# Altium schematic symbol library pga_socket_square_208pin_17x17_minus_9x9.SchLib: 2 symbols
Pins are listed as number, name and electrical type; pins without a type are passive.

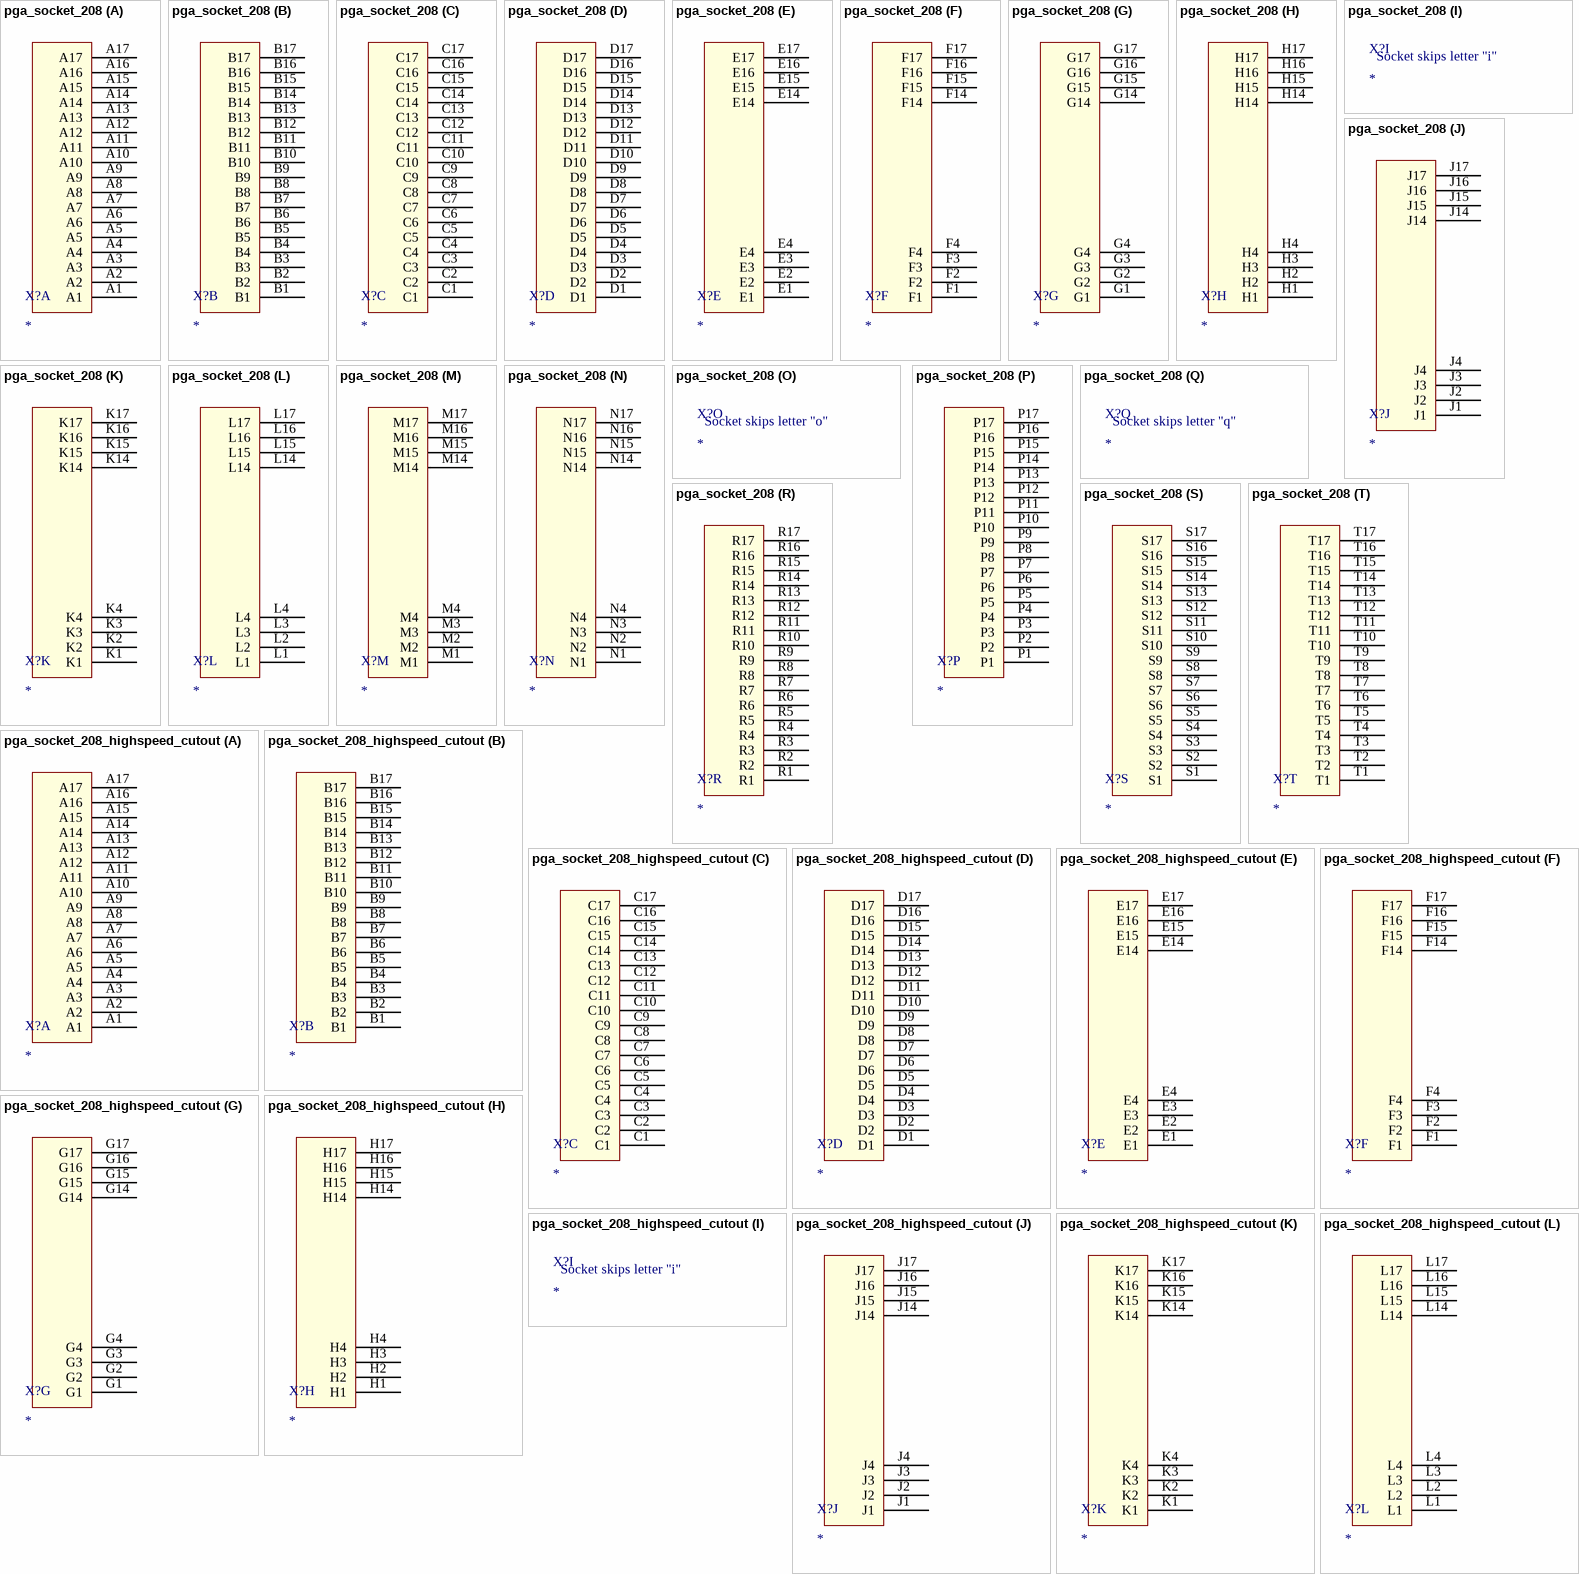
[diagram p0: symbols pga_socket_208 to pga_socket_208_highspeed_cutout]

## pga_socket_208
designator X?
footprint pga_socket_208pin_17x17_minus_9x9
part A pins: A1, A2, A3, A4, A5, A6, A7, A8, A9, A10, A11, A12, A13, A14, A15, A16, A17
part B pins: B1, B2, B3, B4, B5, B6, B7, B8, B9, B10, B11, B12, B13, B14, B15, B16, B17
part C pins: C1, C2, C3, C4, C5, C6, C7, C8, C9, C10, C11, C12, C13, C14, C15, C16, C17
part D pins: D1, D2, D3, D4, D5, D6, D7, D8, D9, D10, D11, D12, D13, D14, D15, D16, D17
part E pins: E1, E2, E3, E4, E14, E15, E16, E17
part F pins: F1, F2, F3, F4, F14, F15, F16, F17
part G pins: G1, G2, G3, G4, G14, G15, G16, G17
part H pins: H1, H2, H3, H4, H14, H15, H16, H17
part J pins: J1, J2, J3, J4, J14, J15, J16, J17
part K pins: K1, K2, K3, K4, K14, K15, K16, K17
part L pins: L1, L2, L3, L4, L14, L15, L16, L17
part M pins: M1, M2, M3, M4, M14, M15, M16, M17
part N pins: N1, N2, N3, N4, N14, N15, N16, N17
part P pins: P1, P2, P3, P4, P5, P6, P7, P8, P9, P10, P11, P12, P13, P14, P15, P16, P17
part R pins: R1, R2, R3, R4, R5, R6, R7, R8, R9, R10, R11, R12, R13, R14, R15, R16, R17
part S pins: S1, S2, S3, S4, S5, S6, S7, S8, S9, S10, S11, S12, S13, S14, S15, S16, S17
part T pins: T1, T2, T3, T4, T5, T6, T7, T8, T9, T10, T11, T12, T13, T14, T15, T16, T17
part I text: Socket skips letter "i"
part O text: Socket skips letter "o"
part Q text: Socket skips letter "q"

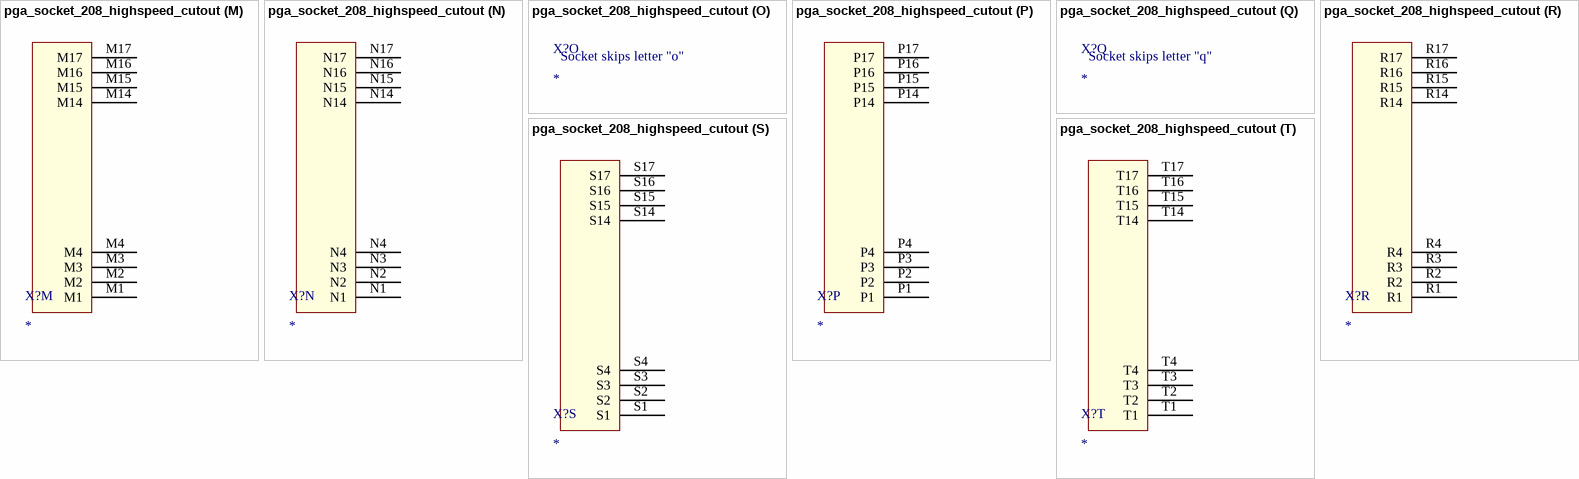
[diagram p1: symbol pga_socket_208_highspeed_cutout]

## pga_socket_208_highspeed_cutout
designator X?
footprint pga_socket_208pin_highspeed_cutout
part A pins: A1, A2, A3, A4, A5, A6, A7, A8, A9, A10, A11, A12, A13, A14, A15, A16, A17
part B pins: B1, B2, B3, B4, B5, B6, B7, B8, B9, B10, B11, B12, B13, B14, B15, B16, B17
part C pins: C1, C2, C3, C4, C5, C6, C7, C8, C9, C10, C11, C12, C13, C14, C15, C16, C17
part D pins: D1, D2, D3, D4, D5, D6, D7, D8, D9, D10, D11, D12, D13, D14, D15, D16, D17
part E pins: E1, E2, E3, E4, E14, E15, E16, E17
part F pins: F1, F2, F3, F4, F14, F15, F16, F17
part G pins: G1, G2, G3, G4, G14, G15, G16, G17
part H pins: H1, H2, H3, H4, H14, H15, H16, H17
part J pins: J1, J2, J3, J4, J14, J15, J16, J17
part K pins: K1, K2, K3, K4, K14, K15, K16, K17
part L pins: L1, L2, L3, L4, L14, L15, L16, L17
part M pins: M1, M2, M3, M4, M14, M15, M16, M17
part N pins: N1, N2, N3, N4, N14, N15, N16, N17
part P pins: P1, P2, P3, P4, P14, P15, P16, P17
part R pins: R1, R2, R3, R4, R14, R15, R16, R17
part S pins: S1, S2, S3, S4, S14, S15, S16, S17
part T pins: T1, T2, T3, T4, T14, T15, T16, T17
part I text: Socket skips letter "i"
part O text: Socket skips letter "o"
part Q text: Socket skips letter "q"